# EAGLE library part HIH6130 (library bbauv)
Honeywell HumidIcon™ Digital Humidity/Temperature Sensors: HIH6130/6131 and HIH6120/6121 Series Honeywell HumidIcon™ Digital Humidity/Temperature Sensors: HIH6130/6131 and 6120/6121 Series is a digital output-type relative humidity (RH) and temperature sensor combined in the same package.
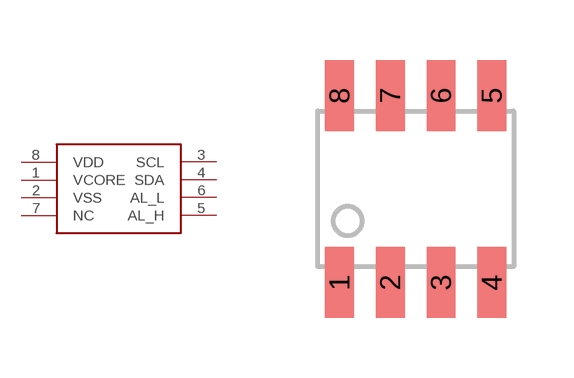
[diagram p7: symbol with the pads of SO-8; footprint SO-8]

Designator prefix -

## HIH6130  [SO-8]
1  VCORE
2  VSS
3  SCL
4  SDA
5  AL_H
6  AL_L
7  NC
8  VDD

## Footprint SO-8 (pad centres in mm)
smd 0.72 x 1.78: 1 -1.905,-2.34; 2 -0.635,-2.34; 3 0.635,-2.34; 4 1.905,-2.34; 5 1.905,2.34; 6 0.635,2.34; 7 -0.635,2.34; 8 -1.905,2.34